# Altium footprint library THUVIEN.PcbLib: 9 footprints
Each footprint in its own frame and in the unit in brackets; x right, y up, seen from the top. Pads: shape width x height; smd on the part's side, far side on the other; paste and mask are expansions set on the pad; w line width, h text height; cw(c..) or ccw(c..) is an arc to the next point about the centre after c.
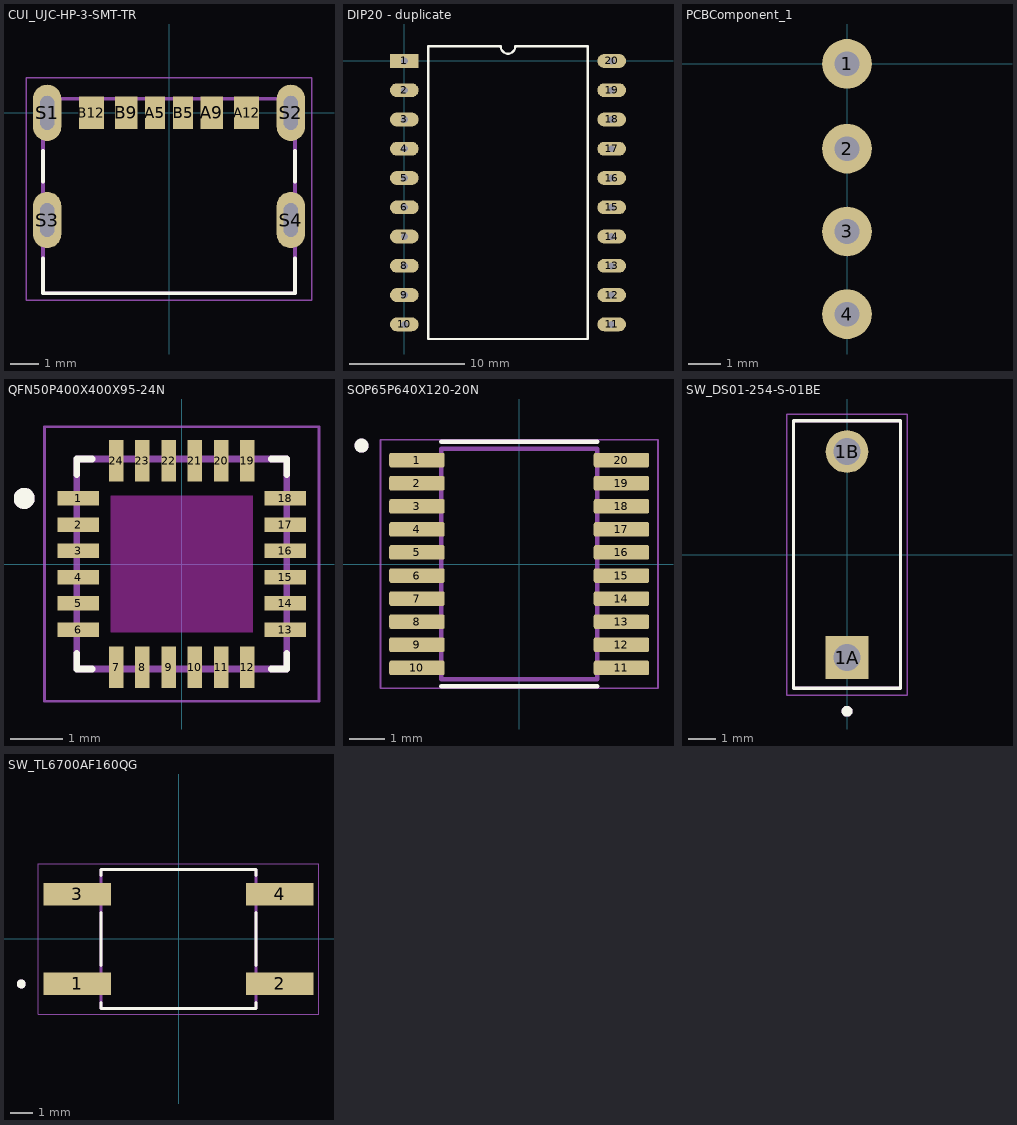
[diagram p0: the footprints below, top view; thin cyan lines are the x and y axes]

## CUI_UJC-HP-3-SMT-TR [mm]
height 3.16
pads (10):
  rect 0.7x1.15 smd: A5(-0.5,0.005) B5(0.5,0.005)
  rect 0.8x1.15 smd: A9(1.52,0.005) B9(-1.52,0.005)
  rect 0.9x1.15 smd: A12(2.75,0.005) B12(-2.75,0.005)
  oval 1x2 hole 0.5 slot 1.2 at 90 deg: S1(-4.32,0) S2(4.32,0) S3(-4.32,-3.8) S4(4.32,-3.8)
Top Overlay:
  lines w0.127: -4.47,-5.15 -4.47,-6.4 4.47,-6.4 4.47,-5.15 ; -4.47,-2.45 -4.47,-1.35 ; 4.47,-2.45 4.47,-1.35
Mechanical 13:
  lines w0.127: -4.47,-6.4 4.47,-6.4 4.47,0.5 -4.47,0.5 -4.47,-6.4
Mechanical 15:
  lines w0.05: -5.07,-6.65 5.07,-6.65 5.07,1.25 -5.07,1.25 -5.07,-6.65
3D body "step_temp.STEP": height 3.23, standoff -1.03, extent -4.34,-6.354 4.6,0.546

## Diode [mm]

## DIP20 - duplicate [mm]
pads (20):
  rect 2.5x1.2 hole 0.6: 1(0,0)
  oval 2.5x1.2 hole 0.6: 2(0,-2.54) 3(0,-5.08) 4(0,-7.62) 5(0,-10.16) 6(0,-12.7) 7(0,-15.24) 8(0,-17.78) 9(0,-20.32) 10(0,-22.86) 11(18,-22.86) 12(18,-20.32) 13(18,-17.78) 14(18,-15.24) 15(18,-12.7) 16(18,-10.16) 17(18,-7.62) 18(18,-5.08) 19(18,-2.54) 20(18,0)
Top Overlay:
  lines w0.2: 2.085,-24.13 15.915,-24.13 15.915,1.27 9.635,1.27 cw(c9,1.27) 8.365,1.27 2.085,1.27 2.085,-24.13

## PCBComponent_1 [mil]
pads (4):
  round 60 hole 30: 1(0,0) 2(0,-102.55) 3(0,-202.55) 4(0,-302.55)
3D body: height 216.54, standoff 118.11, extent -513.63,-561.64 100.54,245.45

## PCBComponent_1 - duplicate [mm]

## QFN50P400X400X95-24N [mm]
height 0.95
pads (24):
  rect 0.79x0.28 smd: 1(-1.97,1.25) 2(-1.97,0.75) 3(-1.97,0.25) 4(-1.97,-0.25) 5(-1.97,-0.75) 6(-1.97,-1.25) 13(1.97,-1.25) 14(1.97,-0.75) 15(1.97,-0.25) 16(1.97,0.25) 17(1.97,0.75) 18(1.97,1.25)
  rect 0.28x0.79 smd: 7(-1.25,-1.97) 8(-0.75,-1.97) 9(-0.25,-1.97) 10(0.25,-1.97) 11(0.75,-1.97) 12(1.25,-1.97) 19(1.25,1.97) 20(0.75,1.97) 21(0.25,1.97) 22(-0.25,1.97) 23(-0.75,1.97) 24(-1.25,1.97)
Top Overlay:
  circle w0.2: c-3,1.25 r0.1
  lines w0.127: -2,-1.705 -2,-2 -1.705,-2 ; -2,1.705 -2,2 -1.705,2 ; 1.705,-2 2,-2 2,-1.705 ; 1.705,2 2,2 2,1.705
Keep-Out Layer:
  region: 1.35,-1.3 -1.35,-1.3 -1.35,1.3 1.35,1.3
Mechanical 13:
  circle w0.2: c-3,1.25 r0.1
  lines w0.127: -2,-2 -2,2 2,2 2,-2 -2,-2
Mechanical 15:
  lines w0.05: -2.615,-2.615 -2.615,2.615 2.615,2.615 2.615,-2.615 -2.615,-2.615
3D body "step_temp.STEP": height 0.93, standoff -0.02, extent -2,-2 2,2

## SOP65P640X120-20N [mm]
height 1.2
pads (20):
  rrect25% 1.56x0.41 smd: 1(-2.88,2.925) 2(-2.88,2.275) 3(-2.88,1.625) 4(-2.88,0.975) 5(-2.88,0.325) 6(-2.88,-0.325) 7(-2.88,-0.975) 8(-2.88,-1.625) 9(-2.88,-2.275) 10(-2.88,-2.925) 11(2.88,-2.925) 12(2.88,-2.275) 13(2.88,-1.625) 14(2.88,-0.975) 15(2.88,-0.325) 16(2.88,0.325) 17(2.88,0.975) 18(2.88,1.625) 19(2.88,2.275) 20(2.88,2.925)
Top Overlay:
  circle w0.2: c-4.44,3.335 r0.1
  lines w0.127: -2.2,-3.45 2.2,-3.45 ; -2.2,3.45 2.2,3.45
Mechanical 13:
  circle w0.2: c-4.44,3.335 r0.1
  lines w0.127: -2.2,-3.25 -2.2,3.25 2.2,3.25 2.2,-3.25 -2.2,-3.25
Mechanical 15:
  lines w0.05: -3.91,-3.5 -3.91,3.5 3.91,3.5 3.91,-3.5 -3.91,-3.5
3D body "step_temp.STEP": height 1.23, standoff 0.03, extent -3.2,-3.25 3.2,3.25

## SW_DS01-254-S-01BE [mm]
height 7
pads (2):
  rect 1.58x1.58 / inner round 1.58 / far side rect 1.58x1.58 hole 1: 1A(0,-3.81)
  round 1.58 hole 1: 1B(0,3.81)
Top Overlay:
  circle w0.2: c0,-5.8 r0.1
  lines w0.127: -1.98,-4.95 -1.98,4.95 1.98,4.95 1.98,-4.95 -1.98,-4.95
Mechanical 13:
  circle w0.2: c0,-5.8 r0.1
  lines w0.127: -1.98,-4.95 -1.98,4.95 1.98,4.95 1.98,-4.95 -1.98,-4.95
Mechanical 15:
  lines w0.05: -2.23,-5.2 -2.23,5.2 2.23,5.2 2.23,-5.2 -2.23,-5.2
3D body "step_temp.STEP": height 5.18, standoff -4.38, extent -1.98,-4.826 1.98,5.074

## SW_TL6700AF160QG [mm]
height 3.5
pads (4):
  rect 3x1 smd: 1(-4.5,-2) 2(4.5,-2) 3(-4.5,2) 4(4.5,2)
Top Overlay:
  circle w0.2: c-7,-2 r0.1
  lines w0.127: -3.45,-2.82 -3.45,-3.1 3.45,-3.1 3.45,-2.82 ; -3.45,-1.18 -3.45,1.18 ; -3.45,2.82 -3.45,3.1 3.45,3.1 3.45,2.82 ; 3.45,-1.18 3.45,1.18
Mechanical 13:
  circle w0.2: c-7,-2 r0.1
  lines w0.127: -3.45,-3.1 -3.45,3.1 3.45,3.1 3.45,-3.1 -3.45,-3.1
Mechanical 15:
  lines w0.05: -6.25,-3.35 -6.25,3.35 6.25,3.35 6.25,-3.35 -6.25,-3.35
3D body "step_temp.STEP": height 3.5, standoff 0, extent -5,-3.1 5,3.1